# Altium schematic symbol library CEM-1203(42).SchLib: 1 symbol
Pins are listed as number, name and electrical type; pins without a type are passive.

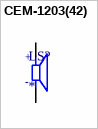
[diagram p0: symbol CEM-1203(42)]

## CEM-1203(42)
designator LS?
12 mm, 3.5 V, 85 dB, Through Hole, Magnetic Audio Transducer Buzzer; MP: CEM-1203(42); MF: {'manufacturer': u'CUI Devices'}; Package: None; Price: None; Value: *; Availability: Unavailable
footprint CUI_CEM-1203(42)
pins: N, P
text: +; -